# Altium footprint library NEUTRIK_NSJ12.PcbLib: 1 footprints
Each footprint in its own frame and in the unit in brackets; x right, y up, seen from the top. Pads: shape width x height; smd on the part's side, far side on the other; paste and mask are expansions set on the pad; w line width, h text height; cw(c..) or ccw(c..) is an arc to the next point about the centre after c.
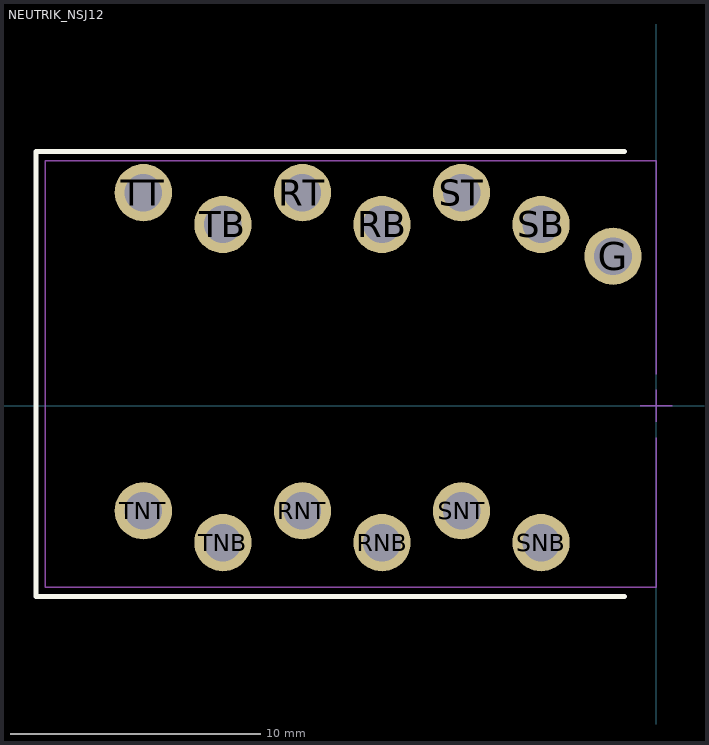
[diagram p0: the footprint, top view; thin cyan lines are the x and y axes]

## NEUTRIK_NSJ12 [mil]
pads (13):
  round 90 hole 59.06: G(-68,235) RB(-431,285) RNB(-431,-215) RNT(-556,-165) RT(-556,335) SB(-181,285) SNB(-181,-215) SNT(-306,-165) ST(-306,335) TB(-681,285) TNB(-681,-215) TNT(-806,-165) TT(-806,335)
Top Overlay:
  lines w7.87: -50,-300 -975,-300 -975,400 -50,400
Mechanical 15:
  lines w1.97: -25,0 25,0 ; 0,-50 0,-285 -960,-285 -960,385 0,385 0,50 ; 0,-25 0,25
3D body: height 1250, standoff -157.48, extent -956.71,-283.46 338.57,385.83